# Altium footprint library VBlib_Switches.PcbLib: 20 footprints (part 2 of 2)
Each footprint in its own frame and in the unit in brackets; x right, y up, seen from the top. Pads: shape width x height; smd on the part's side, far side on the other; paste and mask are expansions set on the pad; w line width, h text height; cw(c..) or ccw(c..) is an arc to the next point about the centre after c.
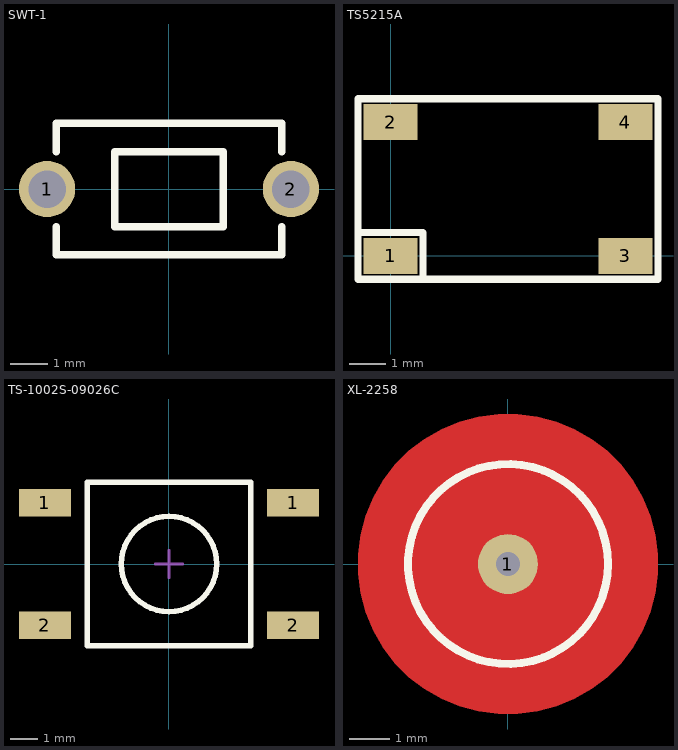
[diagram p1: the footprints below, top view; thin cyan lines are the x and y axes]

## SWT-1 [mm] "Тактовая кнопка SWT-1 (ф. Бурый Медведь)"
height 4.3
pads (2):
  round 1.5 hole 1: 1(-3.25,0) 2(3.25,0)
Top Overlay:
  lines w0.2: -3,-1 -3,-1.75 3,-1.75 3,-1 ; -3,1 -3,1.75 3,1.75 3,1 ; -1.45,-1 1.45,-1 1.45,1 -1.45,1 -1.45,-1
3D body: height 3.5, standoff 0, extent -3,-1.75 3,1.75
3D body: height 3.6, standoff 0.8, extent -1.5,-1 1.5,1

## TS5215A [mm]
pads (4):
  rect 1.5x1 smd mask+0: 1(0,0) 2(0,3.7) 3(6.5,0) 4(6.5,3.7)
Top Overlay:
  lines w0.2: -0.9,0.65 0.9,0.65 0.9,-0.65 ; -0.9,-0.65 -0.9,4.35 7.4,4.35 7.4,-0.65 -0.75,-0.65 -0.9,-0.65

## TS-1002S-09026C [mm]
pads (4):
  rect 1.9x1 smd: 1(-4.55,2.25) 1(4.55,2.25) 2(-4.55,-2.25) 2(4.55,-2.25)
Top Overlay:
  circle w0.2: c0,0 r1.75
  lines w0.2: -3,-3 -3,3 3,3 3,-3 -3,-3
Mechanical 15:
  lines w0.1: -0.5,0 0.5,0 ; 0,-0.5 0,0.5
3D body "User Library-PTS645SL43SMTR92-LFS.STEP": height 4.3, standoff 0, extent -4.5,-3 4.5,3

## XL-2258 [mm] "Sensor Spring XL-2258"
height 6
pads (1):
  round 1.5 hole 0.6: 1(0,0)
Top Layer:
  pour cut-out: 0,3.75 0.246,3.75 0.733,3.686 1.208,3.558 1.662,3.37 2.088,3.125 2.478,2.825 2.825,2.478 3.125,2.088 3.37,1.662 3.559,1.208 3.686,0.733 3.75,0.245 3.75,0 3.75,-0.246 3.686,-0.733 3.559,-1.208 3.37,-1.662 3.125,-2.088 2.825,-2.478 2.478,-2.825 2.088,-3.124 1.662,-3.37 1.208,-3.558 0.733,-3.685 0.246,-3.75 0,-3.75 -0.245,-3.75 -0.733,-3.685 -1.208,-3.558 -1.662,-3.37 -2.088,-3.124 -2.478,-2.825 -2.825,-2.477 -3.124,-2.087 -3.37,-1.662 -3.558,-1.208 -3.686,-0.733 -3.75,-0.245 -3.75,0 -3.75,0.246 -3.686,0.734 -3.558,1.208 -3.37,1.662 -3.125,2.088 -2.825,2.478 -2.478,2.826 -2.088,3.125 -1.662,3.37 -1.208,3.559 -0.733,3.686 -0.246,3.75
Bottom Layer:
  pour cut-out: 0,2.5 0.246,2.5 0.729,2.404 1.184,2.215 1.594,1.942 1.942,1.594 2.215,1.184 2.404,0.729 2.5,0.246 2.5,0 2.5,-0.246 2.404,-0.729 2.215,-1.184 1.942,-1.594 1.594,-1.942 1.184,-2.215 0.729,-2.404 0.246,-2.5 0,-2.5 -0.246,-2.5 -0.729,-2.404 -1.184,-2.215 -1.593,-1.942 -1.942,-1.594 -2.215,-1.184 -2.404,-0.729 -2.5,-0.246 -2.5,0 -2.5,0.246 -2.404,0.729 -2.215,1.184 -1.942,1.594 -1.594,1.942 -1.184,2.215 -0.729,2.404 -0.246,2.5
Top Overlay:
  circle w0.2: c0,0 r2.5
3D body "Sensor_Spring_XL-2258.STEP": height 6.22, standoff -2.8, extent -4,-4 4,4